# Altium footprint library ca.PcbLib: 1 footprints
Each footprint in its own frame and in the unit in brackets; x right, y up, seen from the top. Pads: shape width x height; smd on the part's side, far side on the other; paste and mask are expansions set on the pad; w line width, h text height; cw(c..) or ccw(c..) is an arc to the next point about the centre after c.
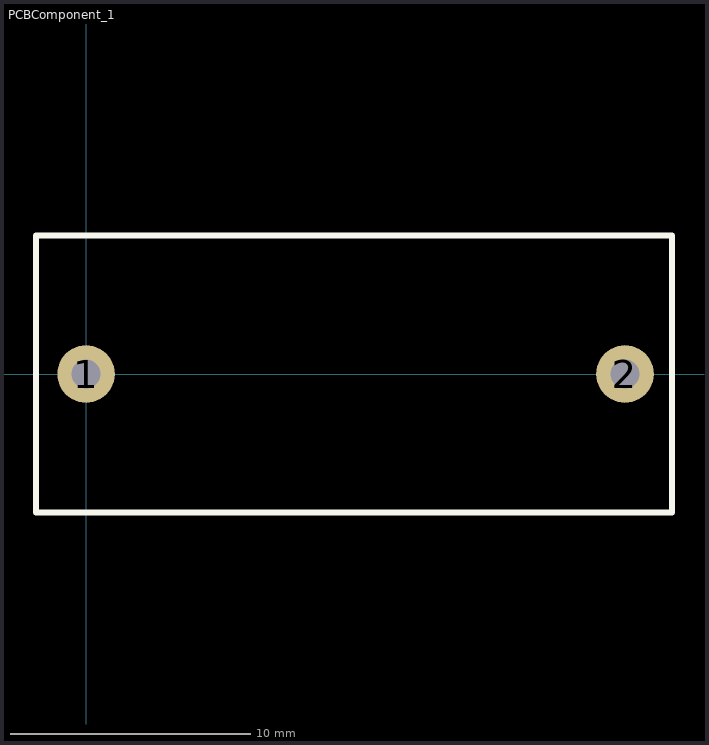
[diagram p0: the footprint, top view; thin cyan lines are the x and y axes]

## PCBComponent_1 [mm]
pads (2):
  round 2.4 hole 1.2: 1(0,0) 2(22.479,0)
Top Overlay:
  lines w0.254: -2.095,-5.779 -2.095,5.779 11.239,5.779 24.447,5.779 24.447,-5.779 -2.095,-5.779